# Altium footprint library TP R30.PcbLib: 1 footprints
Each footprint in its own frame and in the unit in brackets; x right, y up, seen from the top. Pads: shape width x height; smd on the part's side, far side on the other; paste and mask are expansions set on the pad; w line width, h text height; cw(c..) or ccw(c..) is an arc to the next point about the centre after c.
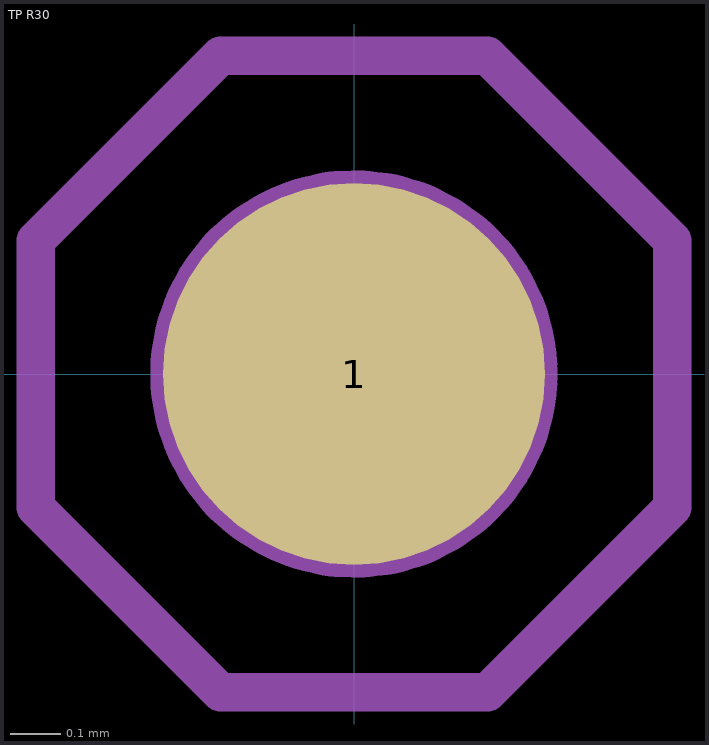
[diagram p0: the footprint, top view; thin cyan lines are the x and y axes]

## TP R30 [mil] "Testpoint, Round, 30 mil Surface Pad"
height 0
pads (1):
  round 30 smd paste-25: 1(0,0)
Mechanical 4:
  circle w16: c0,0 r8
Mechanical 10:
  lines w3: -25,-10.5 -25,10.5 -10.5,25 10.5,25 25,10.5 25,-10.5 10.5,-25 -10.5,-25 -25,-10.5
3D body: height 0, standoff 0, extent -14.94,-14.97 14.94,14.97
3D body: height 0, standoff 0, extent -19.07,-18.99 18.93,19